# Altium integrated library TI Amplifiers and Linear Special Function Amplifier.IntLib: 708 symbols (part 42 of 47)
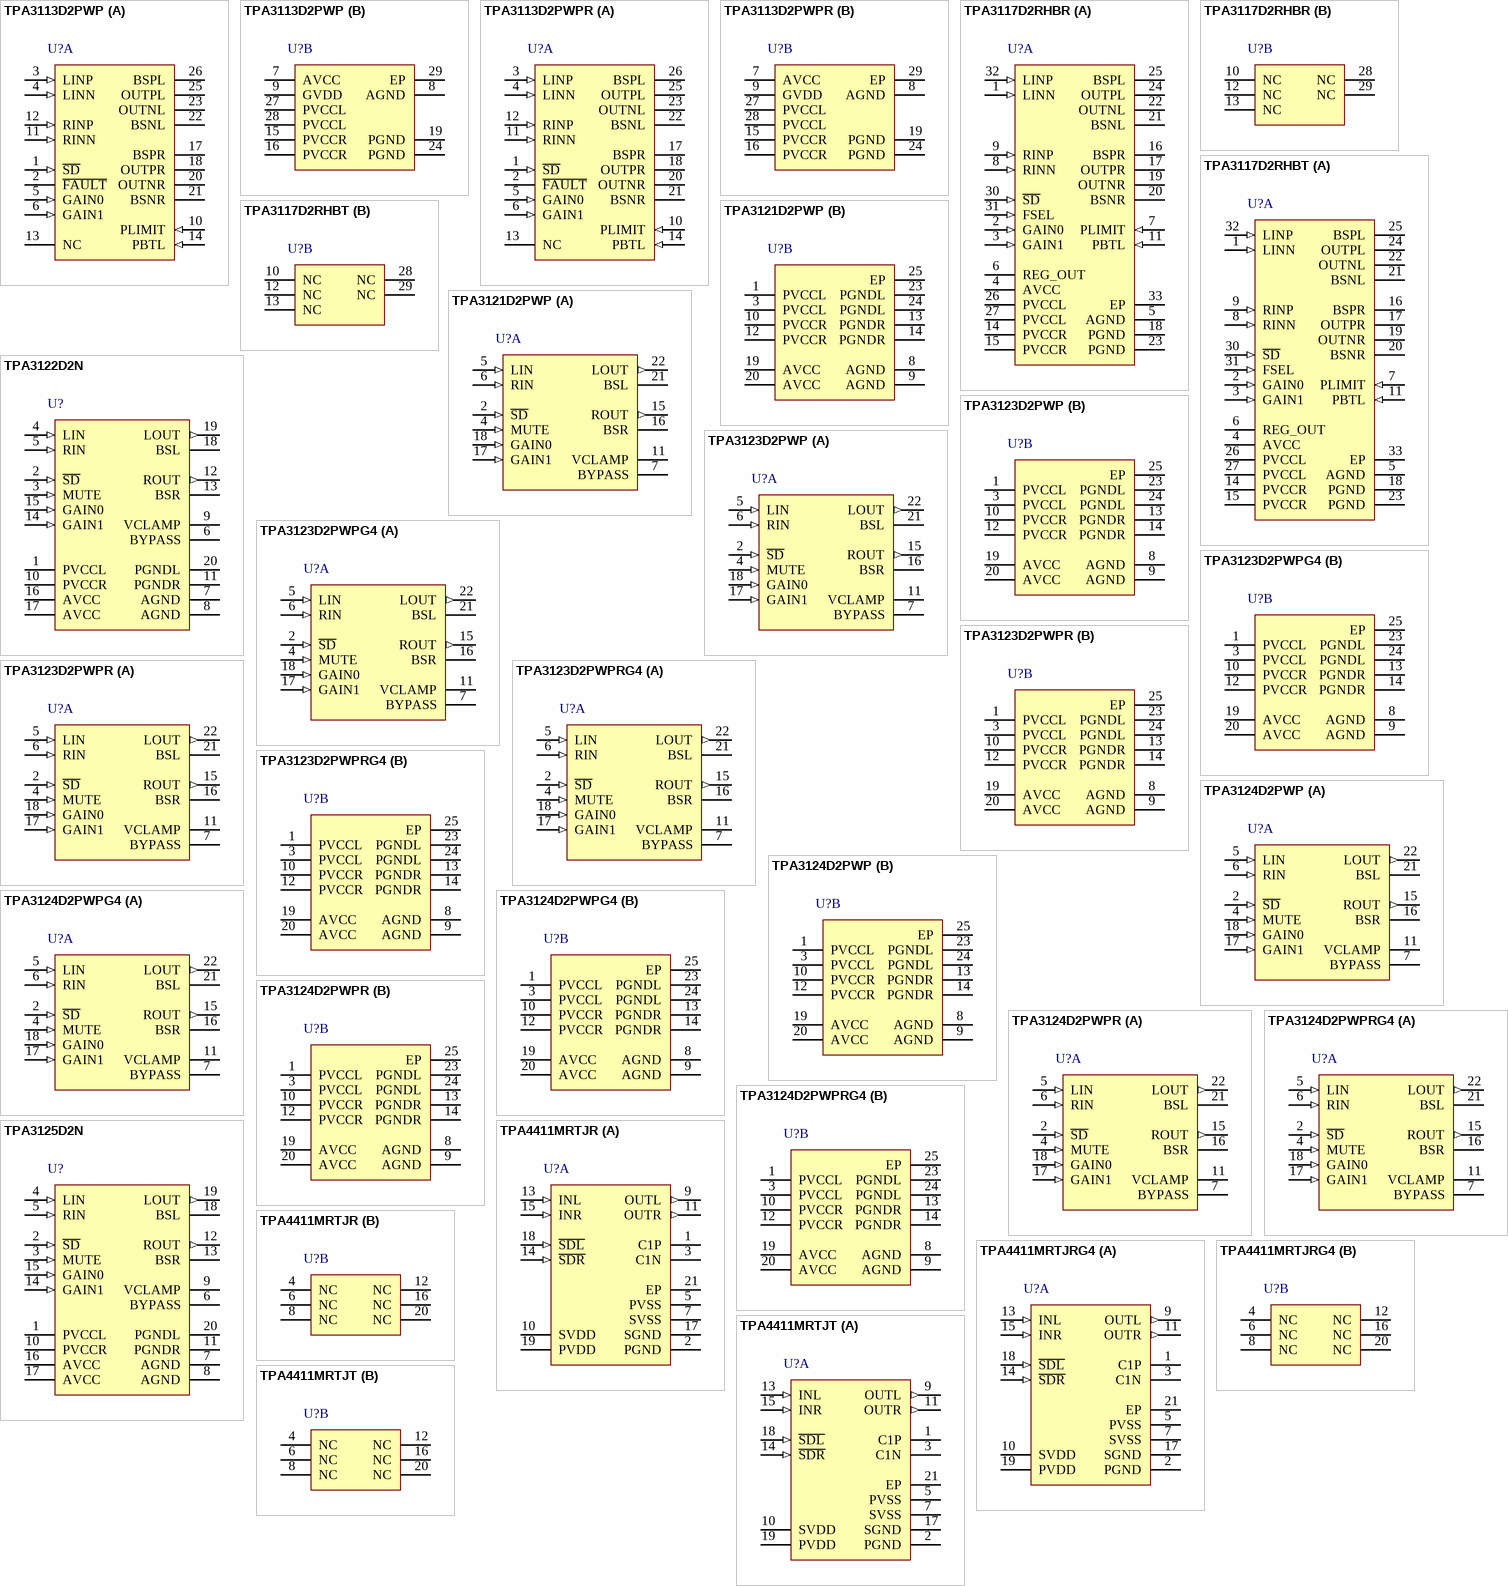
[diagram p80: symbols TPA3113D2PWP to TPA4411MRTJT]

## TPA3124D2PWPG4
designator U?
15 W Stereo Class-D Audio Power Amplifier with SE Outputs and Fast Mute Time, -40 to 85 degC, 24-pin SOP (PWP24), Green (RoHS & no Sb/Br); Manufacturer: Texas Instruments; PartNumber: TPA3124D2PWPG4; Analog Supply Max [V]: 26; Analog Supply Min [V]: 10; Input Type: Analog; Max. Number of Speaker Outputs: 2; SubFamily: Mid/High-Power Amplifier; DatasheetVersion: SLOS578; PackageVersion: 4073225-5/I, 05/2011; PackageReference: PWP24-4820X1950TP; PackageDescription: 24-Pin Plastic Small Outline, Body 4.4 x 7.8 mm, Pitch 0.65 mm; Supplier 1: Digi-Key; Supplier Part Number 1: TPA3124D2PWPG4-ND; Supplier 2: Mouser; Supplier Part Number 2: 595-TPA3124D2PWPG4; Eco-Plan: Green (RoHS & no Sb/Br); Power Stage Supply Min(V): 10; Mounting Technology: Surface Mount; Code_JEDEC: MO-153; ComponentLink1Description: Manufacturer URL; ComponentLink1URL: http://www.ti.com/; ComponentLink2Description: Datasheet; ComponentLink2URL: http://www.ti.com/general/docs/lit/getliterature.tsp?genericPartNumber=TPA3124D2&fileType=pdf; ComponentLink3Description: Package Specification; ComponentLink3URL: http://www.ti.com/litv/pdf/mpds372
footprint TI-PWP24-4820X1950TP_N (SOP, 24-Leads, Body 7.8x4.4mm, Pitch 0.65mm, Thermal Pad 4.87x2.4mm, IPC Medium Density)
footprint TI-PWP24-4820X1950TP_L (SOP, 24-Leads, Body 7.8x4.4mm, Pitch 0.65mm, Thermal Pad 4.87x2.4mm, IPC High Density)
footprint TI-PWP24-4820X1950TP_M (SOP, 24-Leads, Body 7.8x4.4mm, Pitch 0.65mm, Thermal Pad 4.87x2.4mm, IPC Low Density)
part A pins: 2 ~{SD} (in) "Shutdown signal for IC (low = disabled, high = operational). TTL logic levels with compliance to AVCC", 4 MUTE (in) "Mute signal for quick disable/enable of outputs (high = outputs switch at 50% duty cycle, low = outputs enabled). TTL logic levels with compliance to AVCC", 5 LIN (in) "Audio input for left channel", 6 RIN (in) "Audio input for right channel", 7 BYPASS "Reference for preamplifier inputs. Nominally equal to AVCC/8. Also controls start-up time via external capacitor sizing.", 11 VCLAMP "Internally generated voltage supply for bootstrap capacitors", 15 ROUT (out) "Class-D 1/2-H-bridge negative output for right channel", 16 BSR "Bootstrap I/O for right channel", 17 GAIN1 (in) "Gain select most-significant bit. TTL logic levels with compliance to AVCC", 18 GAIN0 (in) "Gain select least-significant bit. TTL logic levels with compliance to AVCC", 21 BSL "Bootstrap I/O for left channel", 22 LOUT (out) "Class-D 1/2-H-bridge positive output for left channel"
part B pins: 1 PVCCL (power) "Power supply for left-channel H-bridge, not internally connected to PVCCR or AVCC", 3 PVCCL (power) "Power supply for left-channel H-bridge, not internally connected to PVCCR or AVCC", 8 AGND (power) "Analog ground for analog cells in core", 9 AGND (power) "Analog ground for digital/analog cells in core", 10 PVCCR (power) "Power supply for right-channel H-bridge, not connected to PVCCL or AVCC", 12 PVCCR (power) "Power supply for right-channel H-bridge, not connected to PVCCL or AVCC", 13 PGNDR (power) "Power ground for right-channel H-bridge.", 14 PGNDR (power) "Power ground for right-channel H-bridge.", 19 AVCC (power) "High-voltage analog power supply. Not internally connected to PVCCR or PVCCL", 20 AVCC (power) "High-voltage analog power supply. Not internally connected to PVCCR or PVCCL", 23 PGNDL (power) "Power ground for left-channel H-bridge", 24 PGNDL (power) "Power ground for left-channel H-bridge", 25 EP (power) "Connect to ground. Thermal pad should be soldered down on all applications to secure the device properly to the printed wiring board."

## TPA3124D2PWPR
designator U?
15 W Stereo Class-D Audio Power Amplifier with SE Outputs and Fast Mute Time, -40 to 85 degC, 24-pin SOP (PWP24), Green (RoHS & no Sb/Br); Manufacturer: Texas Instruments; PartNumber: TPA3124D2PWPR; Analog Supply Max [V]: 26; Analog Supply Min [V]: 10; Input Type: Analog; Max. Number of Speaker Outputs: 2; SubFamily: Mid/High-Power Amplifier; DatasheetVersion: SLOS578; PackageVersion: 4073225-5/I, 05/2011; PackageReference: PWP24-4820X1950TP; PackageDescription: 24-Pin Plastic Small Outline, Body 4.4 x 7.8 mm, Pitch 0.65 mm; Supplier 1: Digi-Key; Supplier Part Number 1: 296-23478-2-ND; Supplier 2: Digi-Key; Supplier Part Number 2: 296-23478-1-ND; Supplier 3: Digi-Key; Supplier Part Number 3: 296-23478-6-ND; Supplier 4: Newark; Supplier Part Number 4: 13N4124; Supplier 5: Mouser; Supplier Part Number 5: 595-TPA3124D2PWPR; Eco-Plan: Green (RoHS & no Sb/Br); Power Stage Supply Min(V): 10; Mounting Technology: Surface Mount; Code_JEDEC: MO-153; ComponentLink1Description: Manufacturer URL; ComponentLink1URL: http://www.ti.com/; ComponentLink2Description: Datasheet; ComponentLink2URL: http://www.ti.com/general/docs/lit/getliterature.tsp?genericPartNumber=TPA3124D2&fileType=pdf; ComponentLink3Description: Package Specification; ComponentLink3URL: http://www.ti.com/litv/pdf/mpds372
footprint TI-PWP24-4820X1950TP_N (SOP, 24-Leads, Body 7.8x4.4mm, Pitch 0.65mm, Thermal Pad 4.87x2.4mm, IPC Medium Density)
footprint TI-PWP24-4820X1950TP_L (SOP, 24-Leads, Body 7.8x4.4mm, Pitch 0.65mm, Thermal Pad 4.87x2.4mm, IPC High Density)
footprint TI-PWP24-4820X1950TP_M (SOP, 24-Leads, Body 7.8x4.4mm, Pitch 0.65mm, Thermal Pad 4.87x2.4mm, IPC Low Density)
part A pins: 2 ~{SD} (in) "Shutdown signal for IC (low = disabled, high = operational). TTL logic levels with compliance to AVCC", 4 MUTE (in) "Mute signal for quick disable/enable of outputs (high = outputs switch at 50% duty cycle, low = outputs enabled). TTL logic levels with compliance to AVCC", 5 LIN (in) "Audio input for left channel", 6 RIN (in) "Audio input for right channel", 7 BYPASS "Reference for preamplifier inputs. Nominally equal to AVCC/8. Also controls start-up time via external capacitor sizing.", 11 VCLAMP "Internally generated voltage supply for bootstrap capacitors", 15 ROUT (out) "Class-D 1/2-H-bridge negative output for right channel", 16 BSR "Bootstrap I/O for right channel", 17 GAIN1 (in) "Gain select most-significant bit. TTL logic levels with compliance to AVCC", 18 GAIN0 (in) "Gain select least-significant bit. TTL logic levels with compliance to AVCC", 21 BSL "Bootstrap I/O for left channel", 22 LOUT (out) "Class-D 1/2-H-bridge positive output for left channel"
part B pins: 1 PVCCL (power) "Power supply for left-channel H-bridge, not internally connected to PVCCR or AVCC", 3 PVCCL (power) "Power supply for left-channel H-bridge, not internally connected to PVCCR or AVCC", 8 AGND (power) "Analog ground for analog cells in core", 9 AGND (power) "Analog ground for digital/analog cells in core", 10 PVCCR (power) "Power supply for right-channel H-bridge, not connected to PVCCL or AVCC", 12 PVCCR (power) "Power supply for right-channel H-bridge, not connected to PVCCL or AVCC", 13 PGNDR (power) "Power ground for right-channel H-bridge.", 14 PGNDR (power) "Power ground for right-channel H-bridge.", 19 AVCC (power) "High-voltage analog power supply. Not internally connected to PVCCR or PVCCL", 20 AVCC (power) "High-voltage analog power supply. Not internally connected to PVCCR or PVCCL", 23 PGNDL (power) "Power ground for left-channel H-bridge", 24 PGNDL (power) "Power ground for left-channel H-bridge", 25 EP (power) "Connect to ground. Thermal pad should be soldered down on all applications to secure the device properly to the printed wiring board."

## TPA3124D2PWPRG4
designator U?
15 W Stereo Class-D Audio Power Amplifier with SE Outputs and Fast Mute Time, -40 to 85 degC, 24-pin SOP (PWP24), Green (RoHS & no Sb/Br); Manufacturer: Texas Instruments; PartNumber: TPA3124D2PWPRG4; Analog Supply Max [V]: 26; Analog Supply Min [V]: 10; Input Type: Analog; Max. Number of Speaker Outputs: 2; SubFamily: Mid/High-Power Amplifier; DatasheetVersion: SLOS578; PackageVersion: 4073225-5/I, 05/2011; PackageReference: PWP24-4820X1950TP; PackageDescription: 24-Pin Plastic Small Outline, Body 4.4 x 7.8 mm, Pitch 0.65 mm; Supplier 1: Digi-Key; Supplier Part Number 1: TPA3124D2PWPRG4-ND; Supplier 2: Mouser; Supplier Part Number 2: 595-TPA3124D2PWPRG4; Eco-Plan: Green (RoHS & no Sb/Br); Power Stage Supply Min(V): 10; Mounting Technology: Surface Mount; Code_JEDEC: MO-153; ComponentLink1Description: Manufacturer URL; ComponentLink1URL: http://www.ti.com/; ComponentLink2Description: Datasheet; ComponentLink2URL: http://www.ti.com/general/docs/lit/getliterature.tsp?genericPartNumber=TPA3124D2&fileType=pdf; ComponentLink3Description: Package Specification; ComponentLink3URL: http://www.ti.com/litv/pdf/mpds372
footprint TI-PWP24-4820X1950TP_N (SOP, 24-Leads, Body 7.8x4.4mm, Pitch 0.65mm, Thermal Pad 4.87x2.4mm, IPC Medium Density)
footprint TI-PWP24-4820X1950TP_L (SOP, 24-Leads, Body 7.8x4.4mm, Pitch 0.65mm, Thermal Pad 4.87x2.4mm, IPC High Density)
footprint TI-PWP24-4820X1950TP_M (SOP, 24-Leads, Body 7.8x4.4mm, Pitch 0.65mm, Thermal Pad 4.87x2.4mm, IPC Low Density)
part A pins: 2 ~{SD} (in) "Shutdown signal for IC (low = disabled, high = operational). TTL logic levels with compliance to AVCC", 4 MUTE (in) "Mute signal for quick disable/enable of outputs (high = outputs switch at 50% duty cycle, low = outputs enabled). TTL logic levels with compliance to AVCC", 5 LIN (in) "Audio input for left channel", 6 RIN (in) "Audio input for right channel", 7 BYPASS "Reference for preamplifier inputs. Nominally equal to AVCC/8. Also controls start-up time via external capacitor sizing.", 11 VCLAMP "Internally generated voltage supply for bootstrap capacitors", 15 ROUT (out) "Class-D 1/2-H-bridge negative output for right channel", 16 BSR "Bootstrap I/O for right channel", 17 GAIN1 (in) "Gain select most-significant bit. TTL logic levels with compliance to AVCC", 18 GAIN0 (in) "Gain select least-significant bit. TTL logic levels with compliance to AVCC", 21 BSL "Bootstrap I/O for left channel", 22 LOUT (out) "Class-D 1/2-H-bridge positive output for left channel"
part B pins: 1 PVCCL (power) "Power supply for left-channel H-bridge, not internally connected to PVCCR or AVCC", 3 PVCCL (power) "Power supply for left-channel H-bridge, not internally connected to PVCCR or AVCC", 8 AGND (power) "Analog ground for analog cells in core", 9 AGND (power) "Analog ground for digital/analog cells in core", 10 PVCCR (power) "Power supply for right-channel H-bridge, not connected to PVCCL or AVCC", 12 PVCCR (power) "Power supply for right-channel H-bridge, not connected to PVCCL or AVCC", 13 PGNDR (power) "Power ground for right-channel H-bridge.", 14 PGNDR (power) "Power ground for right-channel H-bridge.", 19 AVCC (power) "High-voltage analog power supply. Not internally connected to PVCCR or PVCCL", 20 AVCC (power) "High-voltage analog power supply. Not internally connected to PVCCR or PVCCL", 23 PGNDL (power) "Power ground for left-channel H-bridge", 24 PGNDL (power) "Power ground for left-channel H-bridge", 25 EP (power) "Connect to ground. Thermal pad should be soldered down on all applications to secure the device properly to the printed wiring board."

## TPA3125D2N
designator U?
10 W Stereo Class-D Audio Power Amplifier with SE Outputs, -40 to 85 degC, 20-pin DIP (N20), Pb-Free (RoHS); Manufacturer: Texas Instruments; PartNumber: TPA3125D2N; Analog Supply Max [V]: 26; Analog Supply Min [V]: 10; Input Type: Analog; SubFamily: Mid/High-Power Amplifier; DatasheetVersion: SLOS611; PackageVersion: 4040049/E, 12/2002; PackageReference: N20; PackageDescription: 20-Pin Plastic In-Line, Body 25.40 x 6.35 mm, Pitch 2.54 mm; Supplier 1: Digi-Key; Supplier Part Number 1: 296-24090-5-ND; Supplier 2: Farnell; Supplier Part Number 2: 1755373; Supplier 3: Newark; Supplier Part Number 3: 45P8245; Supplier 4: Mouser; Supplier Part Number 4: 595-TPA3125D2N; Eco-Plan: Pb-Free (RoHS); Power Stage Supply Min(V): 10; Mounting Technology: Through Hole; Code_JEDEC: MS-001; ComponentLink1Description: Manufacturer URL; ComponentLink1URL: http://www.ti.com/; ComponentLink2Description: Datasheet; ComponentLink2URL: http://www.ti.com/general/docs/lit/getliterature.tsp?genericPartNumber=TPA3125D2&fileType=pdf; ComponentLink3Description: Package Specification; ComponentLink3URL: http://www.ti.com/lit/ml/mpdi002c/mpdi002c.pdf
footprint TI-N20 (DIP, 20-Leads, Body 25.4x6.35 mm, Pitch 2.54 mm)
pins: 1 PVCCL (power) "Power supply for left channel H-bridge.", 2 ~{SD} (in) "Shutdown signal for IC (low = outputs disabled, high = operational). TTL logic levels with compliance to AVCC.", 3 MUTE (in) "Mute signal for quick disable/enable of outputs (high = outputs switch at 50% duty cycle; low = outputs enabled). TTL logic levels with compliance to AVCC.", 4 LIN (in) "Audio input for left channel.", 5 RIN (in) "Audio input for right channel.", 6 BYPASS "Reference for pre-amplifier inputs. Nominally equal to AVCC/8. Also controls start-up time via external capacitor sizing.", 7 AGND (power) "Analog ground for digital/analog cells in core.", 8 AGND (power) "Analog ground for digital/analog cells in core.", 9 VCLAMP "Internally generated voltage supply for bootstrap capacitors.", 10 PVCCR (power) "Power supply for right channel H-bridge.", 11 PGNDR (power) "Power ground for right channel H-bridge.", 12 ROUT (out) "Class-D H-bridge negative output for right channel.", 13 BSR "Bootstrap input for right channel.", 14 GAIN1 (in) "Gain select most significant bit. TTL logic levels with compliance to AVCC.", 15 GAIN0 (in) "Gain select least significant bit. TTL logic levels with compliance to AVCC.", 16 AVCC (power) "High-voltage analog power supply. Not internally connected to PVCCR or PVCCL", 17 AVCC (power) "High-voltage analog power supply. Not internally connected to PVCCR or PVCCL", 18 BSL "Bootstrap input for left channel.", 19 LOUT (out) "Class-D H-bridge positive output for left channel.", 20 PGNDL (power) "Power ground for left channel H-bridge."

## TPA4411MRTJR
designator U?
80-mW DirectPath(TM) Stereo Headphone Amplifier, -40 to 85 degC, 20-pin QFN (RTJ20), Green (RoHS & no Sb/Br); Manufacturer: Texas Instruments; PartNumber: TPA4411MRTJR; Ground-Centered Outputs: Yes; Half Power THD + N @ 1 kHz (%)(kHz): 0.054; ISD(uA): 1; Load(Min)(ohms): 16; Output Power(W): 0.05; PSRR(dB): -80; Special Features: Fixed Gain; Supply Max(Max)(Volt): 4.5; Supply Min(Min)(Volt): 1.8; DatasheetVersion: SLOS430E; PackageVersion: 4205505/F, 07/2011; PackageReference: RTJ20-2150X2150TP; PackageDescription: 20-Pin Plastic Quad Flatpack No-Lead, Body 4 x 4 mm, Pitch 0.5 mm; Supplier 1: Digi-Key; Supplier Part Number 1: 296-26885-2-ND; Supplier 2: Digi-Key; Supplier Part Number 2: 296-26885-1-ND; Supplier 3: Digi-Key; Supplier Part Number 3: 296-26885-6-ND; Supplier 4: Mouser; Supplier Part Number 4: 595-TPA4411MRTJR; Eco-Plan: Green (RoHS & no Sb/Br); Headphone Channels: Stereo; SubFamily: Headphone Amplifier; Mounting Technology: Surface Mount; ComponentLink1Description: Manufacturer URL; ComponentLink1URL: http://www.ti.com/; ComponentLink2Description: Datasheet; ComponentLink2URL: http://www.ti.com/general/docs/lit/getliterature.tsp?genericPartNumber=TPA4411&fileType=pdf; ComponentLink3Description: Package Specification; ComponentLink3URL: http://www.ti.com/litv/pdf/mpqf156e
footprint TI-RTJ20-2150X2150TP_V (QFN, 20-Leads, Body 4x4mm, Pitch 0.5mm, Thermal Pad 2.15x2.15mm)
part A pins: 1 C1P "Charge pump flying capacitor positive terminal", 2 PGND (power) "Power ground, connect to ground.", 3 C1N "Charge pump flying capacitor negative terminal", 5 PVSS (power) "Output from charge pump", 7 SVSS (power) "Amplifier negative supply, connect to PVSS via star connection.", 9 OUTL (out) "Left audio channel output signal", 10 SVDD (power) "Amplifier positive supply, connect to PVDD via star connection.", 11 OUTR (out) "Right audio channel output signal", 13 INL (in) "Left audio channel input signal", 14 ~{SDR} (in) "Right channel shutdown, active low logic.", 15 INR (in) "Right audio channel input signal", 17 SGND (power) "Signal ground, connect to ground.", 18 ~{SDL} (in) "Left channel shutdown, active low logic.", 19 PVDD (power) "Supply voltage, connect to positive supply.", 21 EP "Exposed pad must be soldered to a floating plane. Do NOT connect to power or ground."
part B pins: 4 NC "No connection", 6 NC "No connection", 8 NC "No connection", 12 NC "No connection", 16 NC "No connection", 20 NC "No connection"

## TPA4411MRTJRG4
designator U?
80-mW DirectPath(TM) Stereo Headphone Amplifier, -40 to 85 degC, 20-pin QFN (RTJ20), Green (RoHS & no Sb/Br); Manufacturer: Texas Instruments; PartNumber: TPA4411MRTJRG4; Ground-Centered Outputs: Yes; Half Power THD + N @ 1 kHz (%)(kHz): 0.054; ISD(uA): 1; Load(Min)(ohms): 16; Output Power(W): 0.05; PSRR(dB): -80; Special Features: Fixed Gain; Supply Max(Max)(Volt): 4.5; Supply Min(Min)(Volt): 1.8; DatasheetVersion: SLOS430E; PackageVersion: 4205505/F, 07/2011; PackageReference: RTJ20-2150X2150TP; PackageDescription: 20-Pin Plastic Quad Flatpack No-Lead, Body 4 x 4 mm, Pitch 0.5 mm; Supplier 1: Digi-Key; Supplier Part Number 1: TPA4411MRTJRG4-ND; Supplier 2: Mouser; Supplier Part Number 2: 595-TPA4411MRTJRG4; Eco-Plan: Green (RoHS & no Sb/Br); Headphone Channels: Stereo; SubFamily: Headphone Amplifier; Mounting Technology: Surface Mount; ComponentLink1Description: Manufacturer URL; ComponentLink1URL: http://www.ti.com/; ComponentLink2Description: Datasheet; ComponentLink2URL: http://www.ti.com/general/docs/lit/getliterature.tsp?genericPartNumber=TPA4411&fileType=pdf; ComponentLink3Description: Package Specification; ComponentLink3URL: http://www.ti.com/litv/pdf/mpqf156e
footprint TI-RTJ20-2150X2150TP_V (QFN, 20-Leads, Body 4x4mm, Pitch 0.5mm, Thermal Pad 2.15x2.15mm)
part A pins: 1 C1P "Charge pump flying capacitor positive terminal", 2 PGND (power) "Power ground, connect to ground.", 3 C1N "Charge pump flying capacitor negative terminal", 5 PVSS (power) "Output from charge pump", 7 SVSS (power) "Amplifier negative supply, connect to PVSS via star connection.", 9 OUTL (out) "Left audio channel output signal", 10 SVDD (power) "Amplifier positive supply, connect to PVDD via star connection.", 11 OUTR (out) "Right audio channel output signal", 13 INL (in) "Left audio channel input signal", 14 ~{SDR} (in) "Right channel shutdown, active low logic.", 15 INR (in) "Right audio channel input signal", 17 SGND (power) "Signal ground, connect to ground.", 18 ~{SDL} (in) "Left channel shutdown, active low logic.", 19 PVDD (power) "Supply voltage, connect to positive supply.", 21 EP "Exposed pad must be soldered to a floating plane. Do NOT connect to power or ground."
part B pins: 4 NC "No connection", 6 NC "No connection", 8 NC "No connection", 12 NC "No connection", 16 NC "No connection", 20 NC "No connection"

## TPA4411MRTJT
designator U?
80-mW DirectPath(TM) Stereo Headphone Amplifier, -40 to 85 degC, 20-pin QFN (RTJ20), Green (RoHS & no Sb/Br); Manufacturer: Texas Instruments; PartNumber: TPA4411MRTJT; Ground-Centered Outputs: Yes; Half Power THD + N @ 1 kHz (%)(kHz): 0.054; ISD(uA): 1; Load(Min)(ohms): 16; Output Power(W): 0.05; PSRR(dB): -80; Special Features: Fixed Gain; Supply Max(Max)(Volt): 4.5; Supply Min(Min)(Volt): 1.8; DatasheetVersion: SLOS430E; PackageVersion: 4205505/F, 07/2011; PackageReference: RTJ20-2150X2150TP; PackageDescription: 20-Pin Plastic Quad Flatpack No-Lead, Body 4 x 4 mm, Pitch 0.5 mm; Supplier 1: Digi-Key; Supplier Part Number 1: 296-18278-2-ND; Supplier 2: Digi-Key; Supplier Part Number 2: 296-18278-1-ND; Supplier 3: Digi-Key; Supplier Part Number 3: 296-18278-6-ND; Supplier 4: Newark; Supplier Part Number 4: 43K9722; Supplier 5: Mouser; Supplier Part Number 5: 595-TPA4411MRTJT; Eco-Plan: Green (RoHS & no Sb/Br); Headphone Channels: Stereo; SubFamily: Headphone Amplifier; Mounting Technology: Surface Mount; ComponentLink1Description: Manufacturer URL; ComponentLink1URL: http://www.ti.com/; ComponentLink2Description: Datasheet; ComponentLink2URL: http://www.ti.com/general/docs/lit/getliterature.tsp?genericPartNumber=TPA4411&fileType=pdf; ComponentLink3Description: Package Specification; ComponentLink3URL: http://www.ti.com/litv/pdf/mpqf156e
footprint TI-RTJ20-2150X2150TP_V (QFN, 20-Leads, Body 4x4mm, Pitch 0.5mm, Thermal Pad 2.15x2.15mm)
part A pins: 1 C1P "Charge pump flying capacitor positive terminal", 2 PGND (power) "Power ground, connect to ground.", 3 C1N "Charge pump flying capacitor negative terminal", 5 PVSS (power) "Output from charge pump", 7 SVSS (power) "Amplifier negative supply, connect to PVSS via star connection.", 9 OUTL (out) "Left audio channel output signal", 10 SVDD (power) "Amplifier positive supply, connect to PVDD via star connection.", 11 OUTR (out) "Right audio channel output signal", 13 INL (in) "Left audio channel input signal", 14 ~{SDR} (in) "Right channel shutdown, active low logic.", 15 INR (in) "Right audio channel input signal", 17 SGND (power) "Signal ground, connect to ground.", 18 ~{SDL} (in) "Left channel shutdown, active low logic.", 19 PVDD (power) "Supply voltage, connect to positive supply.", 21 EP "Exposed pad must be soldered to a floating plane. Do NOT connect to power or ground."
part B pins: 4 NC "No connection", 6 NC "No connection", 8 NC "No connection", 12 NC "No connection", 16 NC "No connection", 20 NC "No connection"

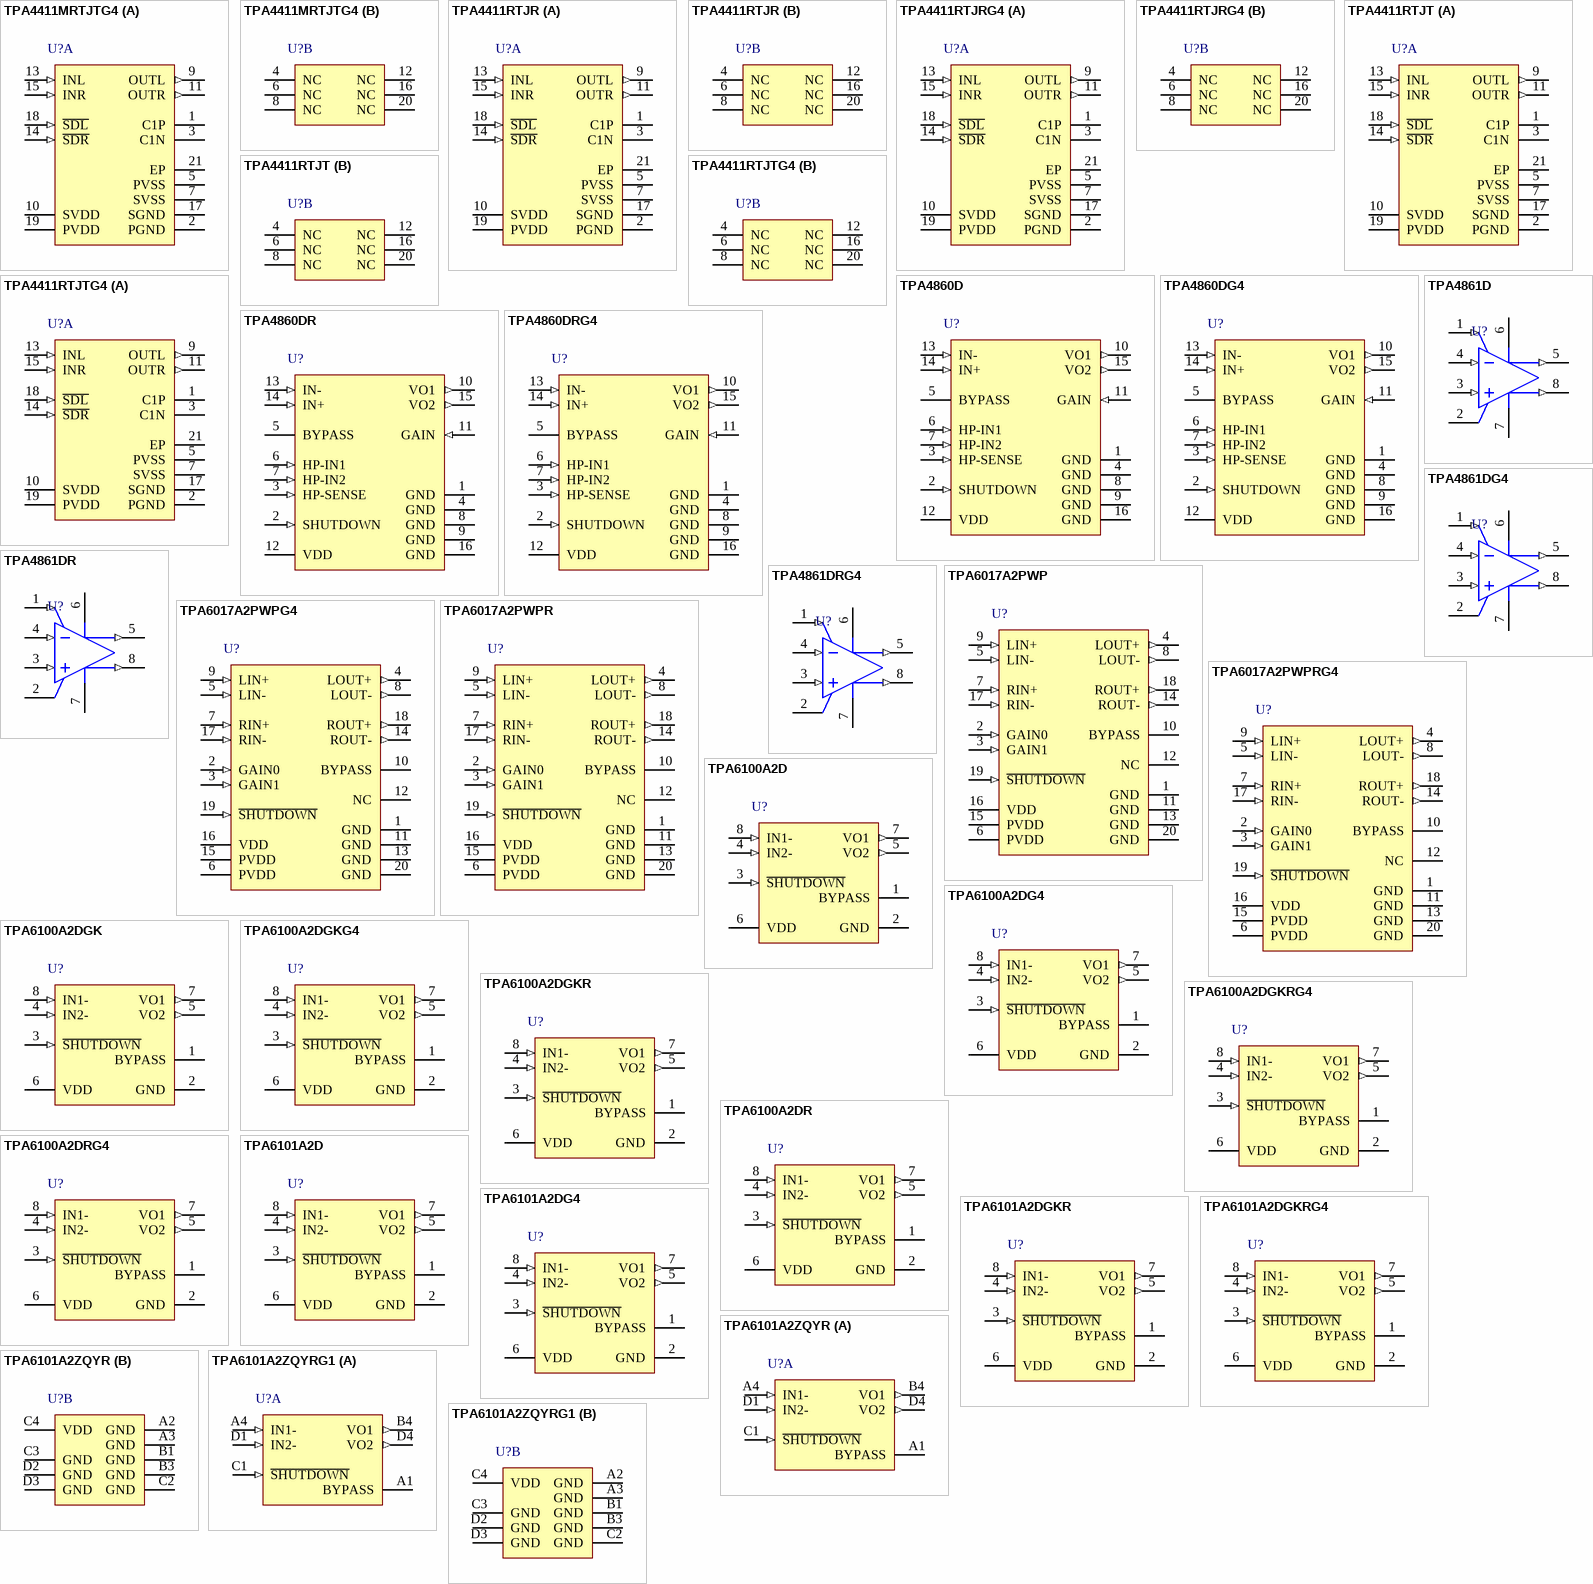
[diagram p36: symbols TPA4411MRTJTG4 to TPA6101A2ZQYRG1]

## TPA4411MRTJTG4
designator U?
80-mW DirectPath(TM) Stereo Headphone Amplifier, -40 to 85 degC, 20-pin QFN (RTJ20), Green (RoHS & no Sb/Br); Manufacturer: Texas Instruments; PartNumber: TPA4411MRTJTG4; Ground-Centered Outputs: Yes; Half Power THD + N @ 1 kHz (%)(kHz): 0.054; ISD(uA): 1; Load(Min)(ohms): 16; Output Power(W): 0.05; PSRR(dB): -80; Special Features: Fixed Gain; Supply Max(Max)(Volt): 4.5; Supply Min(Min)(Volt): 1.8; DatasheetVersion: SLOS430E; PackageVersion: 4205505/F, 07/2011; PackageReference: RTJ20-2150X2150TP; PackageDescription: 20-Pin Plastic Quad Flatpack No-Lead, Body 4 x 4 mm, Pitch 0.5 mm; Supplier 1: Digi-Key; Supplier Part Number 1: TPA4411MRTJTG4-ND; Supplier 2: Mouser; Supplier Part Number 2: 595-TPA4411MRTJTG4; Eco-Plan: Green (RoHS & no Sb/Br); Headphone Channels: Stereo; SubFamily: Headphone Amplifier; Mounting Technology: Surface Mount; ComponentLink1Description: Manufacturer URL; ComponentLink1URL: http://www.ti.com/; ComponentLink2Description: Datasheet; ComponentLink2URL: http://www.ti.com/general/docs/lit/getliterature.tsp?genericPartNumber=TPA4411&fileType=pdf; ComponentLink3Description: Package Specification; ComponentLink3URL: http://www.ti.com/litv/pdf/mpqf156e
footprint TI-RTJ20-2150X2150TP_V (QFN, 20-Leads, Body 4x4mm, Pitch 0.5mm, Thermal Pad 2.15x2.15mm)
part A pins: 1 C1P "Charge pump flying capacitor positive terminal", 2 PGND (power) "Power ground, connect to ground.", 3 C1N "Charge pump flying capacitor negative terminal", 5 PVSS (power) "Output from charge pump", 7 SVSS (power) "Amplifier negative supply, connect to PVSS via star connection.", 9 OUTL (out) "Left audio channel output signal", 10 SVDD (power) "Amplifier positive supply, connect to PVDD via star connection.", 11 OUTR (out) "Right audio channel output signal", 13 INL (in) "Left audio channel input signal", 14 ~{SDR} (in) "Right channel shutdown, active low logic.", 15 INR (in) "Right audio channel input signal", 17 SGND (power) "Signal ground, connect to ground.", 18 ~{SDL} (in) "Left channel shutdown, active low logic.", 19 PVDD (power) "Supply voltage, connect to positive supply.", 21 EP "Exposed pad must be soldered to a floating plane. Do NOT connect to power or ground."
part B pins: 4 NC "No connection", 6 NC "No connection", 8 NC "No connection", 12 NC "No connection", 16 NC "No connection", 20 NC "No connection"

## TPA4411RTJR
designator U?
80-mW DirectPath(TM) Stereo Headphone Amplifier, -40 to 85 degC, 20-pin QFN (RTJ20), Green (RoHS & no Sb/Br); Manufacturer: Texas Instruments; PartNumber: TPA4411RTJR; Ground-Centered Outputs: Yes; Half Power THD + N @ 1 kHz (%)(kHz): 0.054; ISD(uA): 1; Load(Min)(ohms): 16; Output Power(W): 0.05; PSRR(dB): -80; Special Features: Fixed Gain; Supply Max(Max)(Volt): 4.5; Supply Min(Min)(Volt): 1.8; DatasheetVersion: SLOS430E; PackageVersion: 4205505/F, 07/2011; PackageReference: RTJ20-2700X2700TP; PackageDescription: 20-pin Plastic Flat Pack, Body 4 x 4 mm, Pitch 0.5 mm; Supplier 1: Digi-Key; Supplier Part Number 1: TPA4411RTJR-ND; Supplier 2: Newark; Supplier Part Number 2: 44J2482; Supplier 3: Mouser; Supplier Part Number 3: 595-TPA4411RTJR; Eco-Plan: Green (RoHS & no Sb/Br); Headphone Channels: Stereo; SubFamily: Headphone Amplifier; Mounting Technology: Surface Mount; ComponentLink1Description: Manufacturer URL; ComponentLink1URL: http://www.ti.com/; ComponentLink2Description: Datasheet; ComponentLink2URL: http://www.ti.com/general/docs/lit/getliterature.tsp?genericPartNumber=TPA4411&fileType=pdf; ComponentLink3Description: Package Specification; ComponentLink3URL: http://www.ti.com/litv/pdf/mpqf156e
footprint TI-RTJ20-2700X2700TP_V (QFN, 20-Leads, Body 4x4mm, Pitch 0.5mm, Thermal Pad 2.7x2.7mm)
part A pins: 1 C1P "Charge pump flying capacitor positive terminal", 2 PGND (power) "Power ground, connect to ground.", 3 C1N "Charge pump flying capacitor negative terminal", 5 PVSS (power) "Output from charge pump", 7 SVSS (power) "Amplifier negative supply, connect to PVSS via star connection.", 9 OUTL (out) "Left audio channel output signal", 10 SVDD (power) "Amplifier positive supply, connect to PVDD via star connection.", 11 OUTR (out) "Right audio channel output signal", 13 INL (in) "Left audio channel input signal", 14 ~{SDR} (in) "Right channel shutdown, active low logic.", 15 INR (in) "Right audio channel input signal", 17 SGND (power) "Signal ground, connect to ground.", 18 ~{SDL} (in) "Left channel shutdown, active low logic.", 19 PVDD (power) "Supply voltage, connect to positive supply.", 21 EP "Exposed pad must be soldered to a floating plane. Do NOT connect to power or ground."
part B pins: 4 NC "No connection", 6 NC "No connection", 8 NC "No connection", 12 NC "No connection", 16 NC "No connection", 20 NC "No connection"

## TPA4411RTJRG4
designator U?
80-mW DirectPath(TM) Stereo Headphone Amplifier, -40 to 85 degC, 20-pin QFN (RTJ20), Green (RoHS & no Sb/Br); Manufacturer: Texas Instruments; PartNumber: TPA4411RTJRG4; Ground-Centered Outputs: Yes; Half Power THD + N @ 1 kHz (%)(kHz): 0.054; ISD(uA): 1; Load(Min)(ohms): 16; Output Power(W): 0.05; PSRR(dB): -80; Special Features: Fixed Gain; Supply Max(Max)(Volt): 4.5; Supply Min(Min)(Volt): 1.8; DatasheetVersion: SLOS430E; PackageVersion: 4205505/F, 07/2011; PackageReference: RTJ20-2700X2700TP; PackageDescription: 20-pin Plastic Flat Pack, Body 4 x 4 mm, Pitch 0.5 mm; Supplier 1: Digi-Key; Supplier Part Number 1: TPA4411RTJRG4-ND; Supplier 2: Mouser; Supplier Part Number 2: 595-TPA4411RTJRG4; Eco-Plan: Green (RoHS & no Sb/Br); Headphone Channels: Stereo; SubFamily: Headphone Amplifier; Mounting Technology: Surface Mount; ComponentLink1Description: Manufacturer URL; ComponentLink1URL: http://www.ti.com/; ComponentLink2Description: Datasheet; ComponentLink2URL: http://www.ti.com/general/docs/lit/getliterature.tsp?genericPartNumber=TPA4411&fileType=pdf; ComponentLink3Description: Package Specification; ComponentLink3URL: http://www.ti.com/litv/pdf/mpqf156e
footprint TI-RTJ20-2700X2700TP_V (QFN, 20-Leads, Body 4x4mm, Pitch 0.5mm, Thermal Pad 2.7x2.7mm)
part A pins: 1 C1P "Charge pump flying capacitor positive terminal", 2 PGND (power) "Power ground, connect to ground.", 3 C1N "Charge pump flying capacitor negative terminal", 5 PVSS (power) "Output from charge pump", 7 SVSS (power) "Amplifier negative supply, connect to PVSS via star connection.", 9 OUTL (out) "Left audio channel output signal", 10 SVDD (power) "Amplifier positive supply, connect to PVDD via star connection.", 11 OUTR (out) "Right audio channel output signal", 13 INL (in) "Left audio channel input signal", 14 ~{SDR} (in) "Right channel shutdown, active low logic.", 15 INR (in) "Right audio channel input signal", 17 SGND (power) "Signal ground, connect to ground.", 18 ~{SDL} (in) "Left channel shutdown, active low logic.", 19 PVDD (power) "Supply voltage, connect to positive supply.", 21 EP "Exposed pad must be soldered to a floating plane. Do NOT connect to power or ground."
part B pins: 4 NC "No connection", 6 NC "No connection", 8 NC "No connection", 12 NC "No connection", 16 NC "No connection", 20 NC "No connection"

## TPA4411RTJT
designator U?
80-mW DirectPath(TM) Stereo Headphone Amplifier, -40 to 85 degC, 20-pin QFN (RTJ20), Green (RoHS & no Sb/Br); Manufacturer: Texas Instruments; PartNumber: TPA4411RTJT; Ground-Centered Outputs: Yes; Half Power THD + N @ 1 kHz (%)(kHz): 0.054; ISD(uA): 1; Load(Min)(ohms): 16; Output Power(W): 0.05; PSRR(dB): -80; Special Features: Fixed Gain; Supply Max(Max)(Volt): 4.5; Supply Min(Min)(Volt): 1.8; DatasheetVersion: SLOS430E; PackageVersion: 4205505/F, 07/2011; PackageReference: RTJ20-2700X2700TP; PackageDescription: 20-pin Plastic Flat Pack, Body 4 x 4 mm, Pitch 0.5 mm; Supplier 1: Digi-Key; Supplier Part Number 1: 296-17312-2-ND; Supplier 2: Digi-Key; Supplier Part Number 2: 296-17312-1-ND; Supplier 3: Digi-Key; Supplier Part Number 3: 296-17312-6-ND; Supplier 4: Newark; Supplier Part Number 4: 44J2483; Supplier 5: Mouser; Supplier Part Number 5: 595-TPA4411RTJT; Eco-Plan: Green (RoHS & no Sb/Br); Headphone Channels: Stereo; SubFamily: Headphone Amplifier; Mounting Technology: Surface Mount; ComponentLink1Description: Manufacturer URL; ComponentLink1URL: http://www.ti.com/; ComponentLink2Description: Datasheet; ComponentLink2URL: http://www.ti.com/general/docs/lit/getliterature.tsp?genericPartNumber=TPA4411&fileType=pdf; ComponentLink3Description: Package Specification; ComponentLink3URL: http://www.ti.com/litv/pdf/mpqf156e
footprint TI-RTJ20-2700X2700TP_V (QFN, 20-Leads, Body 4x4mm, Pitch 0.5mm, Thermal Pad 2.7x2.7mm)
part A pins: 1 C1P "Charge pump flying capacitor positive terminal", 2 PGND (power) "Power ground, connect to ground.", 3 C1N "Charge pump flying capacitor negative terminal", 5 PVSS (power) "Output from charge pump", 7 SVSS (power) "Amplifier negative supply, connect to PVSS via star connection.", 9 OUTL (out) "Left audio channel output signal", 10 SVDD (power) "Amplifier positive supply, connect to PVDD via star connection.", 11 OUTR (out) "Right audio channel output signal", 13 INL (in) "Left audio channel input signal", 14 ~{SDR} (in) "Right channel shutdown, active low logic.", 15 INR (in) "Right audio channel input signal", 17 SGND (power) "Signal ground, connect to ground.", 18 ~{SDL} (in) "Left channel shutdown, active low logic.", 19 PVDD (power) "Supply voltage, connect to positive supply.", 21 EP "Exposed pad must be soldered to a floating plane. Do NOT connect to power or ground."
part B pins: 4 NC "No connection", 6 NC "No connection", 8 NC "No connection", 12 NC "No connection", 16 NC "No connection", 20 NC "No connection"

## TPA4411RTJTG4
designator U?
80-mW DirectPath(TM) Stereo Headphone Amplifier, -40 to 85 degC, 20-pin QFN (RTJ20), Green (RoHS & no Sb/Br); Manufacturer: Texas Instruments; PartNumber: TPA4411RTJTG4; Ground-Centered Outputs: Yes; Half Power THD + N @ 1 kHz (%)(kHz): 0.054; ISD(uA): 1; Load(Min)(ohms): 16; Output Power(W): 0.05; PSRR(dB): -80; Special Features: Fixed Gain; Supply Max(Max)(Volt): 4.5; Supply Min(Min)(Volt): 1.8; DatasheetVersion: SLOS430E; PackageVersion: 4205505/F, 07/2011; PackageReference: RTJ20-2700X2700TP; PackageDescription: 20-pin Plastic Flat Pack, Body 4 x 4 mm, Pitch 0.5 mm; Supplier 1: Digi-Key; Supplier Part Number 1: TPA4411RTJTG4-ND; Supplier 2: Mouser; Supplier Part Number 2: 595-TPA4411RTJTG4; Eco-Plan: Green (RoHS & no Sb/Br); Headphone Channels: Stereo; SubFamily: Headphone Amplifier; Mounting Technology: Surface Mount; ComponentLink1Description: Manufacturer URL; ComponentLink1URL: http://www.ti.com/; ComponentLink2Description: Datasheet; ComponentLink2URL: http://www.ti.com/general/docs/lit/getliterature.tsp?genericPartNumber=TPA4411&fileType=pdf; ComponentLink3Description: Package Specification; ComponentLink3URL: http://www.ti.com/litv/pdf/mpqf156e
footprint TI-RTJ20-2700X2700TP_V (QFN, 20-Leads, Body 4x4mm, Pitch 0.5mm, Thermal Pad 2.7x2.7mm)
part A pins: 1 C1P "Charge pump flying capacitor positive terminal", 2 PGND (power) "Power ground, connect to ground.", 3 C1N "Charge pump flying capacitor negative terminal", 5 PVSS (power) "Output from charge pump", 7 SVSS (power) "Amplifier negative supply, connect to PVSS via star connection.", 9 OUTL (out) "Left audio channel output signal", 10 SVDD (power) "Amplifier positive supply, connect to PVDD via star connection.", 11 OUTR (out) "Right audio channel output signal", 13 INL (in) "Left audio channel input signal", 14 ~{SDR} (in) "Right channel shutdown, active low logic.", 15 INR (in) "Right audio channel input signal", 17 SGND (power) "Signal ground, connect to ground.", 18 ~{SDL} (in) "Left channel shutdown, active low logic.", 19 PVDD (power) "Supply voltage, connect to positive supply.", 21 EP "Exposed pad must be soldered to a floating plane. Do NOT connect to power or ground."
part B pins: 4 NC "No connection", 6 NC "No connection", 8 NC "No connection", 12 NC "No connection", 16 NC "No connection", 20 NC "No connection"

## TPA4860D
designator U?
1-W Mono Audio Power Amplifier, -40 to 85 degC, 16-pin SOIC (D16), Green (RoHS & no Sb/Br); Manufacturer: Texas Instruments; PartNumber: TPA4860D; Output Power(W): 1; PSRR(dB): 70; Speaker Amp Type: Class-AB; SubFamily: Dynamic Speaker; Supply Max(Max)(Volt): 5.5; Supply Min(Min)(Volt): 2.7; DatasheetVersion: SLOS164B; PackageVersion: 4040047-6/M, 06/2011; PackageReference: D16; PackageDescription: 16-Pin Plastic Small Outline, Body 9.9 x 3.9 mm, Pitch 1.27 mm; Supplier 1: Digi-Key; Supplier Part Number 1: 296-7013-5-ND; Supplier 2: Newark; Supplier Part Number 2: 76C9811; Supplier 3: Mouser; Supplier Part Number 3: 595-TPA4860D; Eco-Plan: Green (RoHS & no Sb/Br); Speaker Channels: Mono; Mounting Technology: Surface Mount; Code_JEDEC: MS-012; ComponentLink1Description: Manufacturer URL; ComponentLink1URL: http://www.ti.com/; ComponentLink2Description: Datasheet; ComponentLink2URL: http://www.ti.com/general/docs/lit/getliterature.tsp?genericPartNumber=TPA4860&fileType=pdf; ComponentLink3Description: Package Specification; ComponentLink3URL: http://www.ti.com/lit/ml/mpds178g/mpds178g.pdf
footprint TI-D16_N (SOIC, 16-Leads, Body 10x4mm, Pitch 1.27mm, IPC Medium Density)
footprint TI-D16_L (SOIC, 16-Leads, Body 10x4mm, Pitch 1.27mm, IPC High Density)
footprint TI-D16_M (SOIC, 16-Leads, Body 10x4mm, Pitch 1.27mm, IPC Low Density)
pins: 1 GND (power), 2 SHUTDOWN (in), 3 HP-SENSE (in), 4 GND (power), 5 BYPASS, 6 HP-IN1 (in), 7 HP-IN2 (in), 8 GND (power), 9 GND (power), 10 VO1 (out), 11 GAIN (in), 12 VDD (power), 13 IN- (in), 14 IN+ (in), 15 VO2 (out), 16 GND (power)

## TPA4860DG4
designator U?
1-W Mono Audio Power Amplifier, -40 to 85 degC, 16-pin SOIC (D16), Green (RoHS & no Sb/Br); Manufacturer: Texas Instruments; PartNumber: TPA4860DG4; Output Power(W): 1; PSRR(dB): 70; Speaker Amp Type: Class-AB; SubFamily: Dynamic Speaker; Supply Max(Max)(Volt): 5.5; Supply Min(Min)(Volt): 2.7; DatasheetVersion: SLOS164B; PackageVersion: 4040047-6/M, 06/2011; PackageReference: D16; PackageDescription: 16-Pin Plastic Small Outline, Body 9.9 x 3.9 mm, Pitch 1.27 mm; Supplier 1: Digi-Key; Supplier Part Number 1: TPA4860DG4-ND; Supplier 2: Mouser; Supplier Part Number 2: 595-TPA4860DG4; Eco-Plan: Green (RoHS & no Sb/Br); Speaker Channels: Mono; Mounting Technology: Surface Mount; Code_JEDEC: MS-012; ComponentLink1Description: Manufacturer URL; ComponentLink1URL: http://www.ti.com/; ComponentLink2Description: Datasheet; ComponentLink2URL: http://www.ti.com/general/docs/lit/getliterature.tsp?genericPartNumber=TPA4860&fileType=pdf; ComponentLink3Description: Package Specification; ComponentLink3URL: http://www.ti.com/lit/ml/mpds178g/mpds178g.pdf
footprint TI-D16_N (SOIC, 16-Leads, Body 10x4mm, Pitch 1.27mm, IPC Medium Density)
footprint TI-D16_L (SOIC, 16-Leads, Body 10x4mm, Pitch 1.27mm, IPC High Density)
footprint TI-D16_M (SOIC, 16-Leads, Body 10x4mm, Pitch 1.27mm, IPC Low Density)
pins: 1 GND (power), 2 SHUTDOWN (in), 3 HP-SENSE (in), 4 GND (power), 5 BYPASS, 6 HP-IN1 (in), 7 HP-IN2 (in), 8 GND (power), 9 GND (power), 10 VO1 (out), 11 GAIN (in), 12 VDD (power), 13 IN- (in), 14 IN+ (in), 15 VO2 (out), 16 GND (power)

## TPA4860DR
designator U?
1-W Mono Audio Power Amplifier, -40 to 85 degC, 16-pin SOIC (D16), Green (RoHS & no Sb/Br); Manufacturer: Texas Instruments; PartNumber: TPA4860DR; Output Power(W): 1; PSRR(dB): 70; Speaker Amp Type: Class-AB; SubFamily: Dynamic Speaker; Supply Max(Max)(Volt): 5.5; Supply Min(Min)(Volt): 2.7; DatasheetVersion: SLOS164B; PackageVersion: 4040047-6/M, 06/2011; PackageReference: D16; PackageDescription: 16-Pin Plastic Small Outline, Body 9.9 x 3.9 mm, Pitch 1.27 mm; Supplier 1: Digi-Key; Supplier Part Number 1: TPA4860DR-ND; Supplier 2: Newark; Supplier Part Number 2: 76C9812; Supplier 3: Mouser; Supplier Part Number 3: 595-TPA4860DR; Eco-Plan: Green (RoHS & no Sb/Br); Speaker Channels: Mono; Mounting Technology: Surface Mount; Code_JEDEC: MS-012; ComponentLink1Description: Manufacturer URL; ComponentLink1URL: http://www.ti.com/; ComponentLink2Description: Datasheet; ComponentLink2URL: http://www.ti.com/general/docs/lit/getliterature.tsp?genericPartNumber=TPA4860&fileType=pdf; ComponentLink3Description: Package Specification; ComponentLink3URL: http://www.ti.com/lit/ml/mpds178g/mpds178g.pdf
footprint TI-D16_N (SOIC, 16-Leads, Body 10x4mm, Pitch 1.27mm, IPC Medium Density)
footprint TI-D16_L (SOIC, 16-Leads, Body 10x4mm, Pitch 1.27mm, IPC High Density)
footprint TI-D16_M (SOIC, 16-Leads, Body 10x4mm, Pitch 1.27mm, IPC Low Density)
pins: 1 GND (power), 2 SHUTDOWN (in), 3 HP-SENSE (in), 4 GND (power), 5 BYPASS, 6 HP-IN1 (in), 7 HP-IN2 (in), 8 GND (power), 9 GND (power), 10 VO1 (out), 11 GAIN (in), 12 VDD (power), 13 IN- (in), 14 IN+ (in), 15 VO2 (out), 16 GND (power)

## TPA4860DRG4
designator U?
1-W Mono Audio Power Amplifier, -40 to 85 degC, 16-pin SOIC (D16), Green (RoHS & no Sb/Br); Manufacturer: Texas Instruments; PartNumber: TPA4860DRG4; Output Power(W): 1; PSRR(dB): 70; Speaker Amp Type: Class-AB; SubFamily: Dynamic Speaker; Supply Max(Max)(Volt): 5.5; Supply Min(Min)(Volt): 2.7; DatasheetVersion: SLOS164B; PackageVersion: 4040047-6/M, 06/2011; PackageReference: D16; PackageDescription: 16-Pin Plastic Small Outline, Body 9.9 x 3.9 mm, Pitch 1.27 mm; Supplier 1: Digi-Key; Supplier Part Number 1: TPA4860DRG4-ND; Supplier 2: Mouser; Supplier Part Number 2: 595-TPA4860DRG4; Eco-Plan: Green (RoHS & no Sb/Br); Speaker Channels: Mono; Mounting Technology: Surface Mount; Code_JEDEC: MS-012; ComponentLink1Description: Manufacturer URL; ComponentLink1URL: http://www.ti.com/; ComponentLink2Description: Datasheet; ComponentLink2URL: http://www.ti.com/general/docs/lit/getliterature.tsp?genericPartNumber=TPA4860&fileType=pdf; ComponentLink3Description: Package Specification; ComponentLink3URL: http://www.ti.com/lit/ml/mpds178g/mpds178g.pdf
footprint TI-D16_N (SOIC, 16-Leads, Body 10x4mm, Pitch 1.27mm, IPC Medium Density)
footprint TI-D16_L (SOIC, 16-Leads, Body 10x4mm, Pitch 1.27mm, IPC High Density)
footprint TI-D16_M (SOIC, 16-Leads, Body 10x4mm, Pitch 1.27mm, IPC Low Density)
pins: 1 GND (power), 2 SHUTDOWN (in), 3 HP-SENSE (in), 4 GND (power), 5 BYPASS, 6 HP-IN1 (in), 7 HP-IN2 (in), 8 GND (power), 9 GND (power), 10 VO1 (out), 11 GAIN (in), 12 VDD (power), 13 IN- (in), 14 IN+ (in), 15 VO2 (out), 16 GND (power)

## TPA4861D
designator U?
1-W Mono Audio Power Amplifier, -40 to 85 degC, 8-pin SOIC (D8), Green (RoHS & no Sb/Br); Manufacturer: Texas Instruments; PartNumber: TPA4861D; Output Power(W): 1; PSRR(dB): 70; Speaker Amp Type: Class-AB; SubFamily: Dynamic Speaker; Supply Max(Max)(Volt): 5.5; Supply Min(Min)(Volt): 2.7; DatasheetVersion: SLOS163C; PackageVersion: 4040047-3/M, 06/2011; PackageReference: D8; PackageDescription: 8-Pin Plastic Small Outline, Body 4.9 x 3.9 mm, Pitch 1.27 mm; Supplier 1: Digi-Key; Supplier Part Number 1: 296-7014-5-ND; Supplier 2: Farnell; Supplier Part Number 2: 8456526; Supplier 3: Newark; Supplier Part Number 3: 35K1280; Supplier 4: Mouser; Supplier Part Number 4: 595-TPA4861D; Eco-Plan: Green (RoHS & no Sb/Br); Speaker Channels: Mono; Mounting Technology: Surface Mount; Code_JEDEC: MS-012; ComponentLink1Description: Manufacturer URL; ComponentLink1URL: http://www.ti.com/; ComponentLink2Description: Datasheet; ComponentLink2URL: http://www.ti.com/general/docs/lit/getliterature.tsp?genericPartNumber=TPA4861&fileType=pdf; ComponentLink3Description: Package Specification; ComponentLink3URL: http://www.ti.com/litv/pdf/msoi002j
footprint TI-D8_N (SOIC, 8-Leads, Body 5x4mm, Pitch 1.27mm, IPC Medium Density)
footprint TI-D8_L (SOIC, 8-Leads, Body 5x4mm, Pitch 1.27mm, IPC High Density)
footprint TI-D8_M (SOIC, 8-Leads, Body 5x4mm, Pitch 1.27mm, IPC Low Density)
pins: 1 SHUTDOWN (in) "SHUTDOWN places the entire device in shutdown mode when held high (IDD ~ 0.6 uA).", 2 BYPASS "BYPASS is the tap to the voltage divider for internal mid-supply bias. This terminal should be connected to a 0.1-uF - 1.0-uF capacitor when used as an audio power amplifier.", 3 IN+ (in) "IN+ is the noninverting input. IN+ is typically tied to the BYPASS terminal.", 4 IN- (in) "IN- is the inverting input. IN- is typically used as the audio input terminal.", 5 VO1 (out) "SHUTDOWN places the entire device in shutdown mode when held high (IDD ~ 0.6 uA).", 6 VDD (power) "VDD is the supply voltage terminal.", 7 GND (power) "GND is the ground connection.", 8 VO2 (out) "VO2 is the negative BTL output."

## TPA4861DG4
designator U?
1-W Mono Audio Power Amplifier, -40 to 85 degC, 8-pin SOIC (D8), Green (RoHS & no Sb/Br); Manufacturer: Texas Instruments; PartNumber: TPA4861DG4; Output Power(W): 1; PSRR(dB): 70; Speaker Amp Type: Class-AB; SubFamily: Dynamic Speaker; Supply Max(Max)(Volt): 5.5; Supply Min(Min)(Volt): 2.7; DatasheetVersion: SLOS163C; PackageVersion: 4040047-3/M, 06/2011; PackageReference: D8; PackageDescription: 8-Pin Plastic Small Outline, Body 4.9 x 3.9 mm, Pitch 1.27 mm; Supplier 1: Digi-Key; Supplier Part Number 1: TPA4861DG4-ND; Supplier 2: Newark; Supplier Part Number 2: 28M7808; Supplier 3: Mouser; Supplier Part Number 3: 595-TPA4861DG4; Eco-Plan: Green (RoHS & no Sb/Br); Speaker Channels: Mono; Mounting Technology: Surface Mount; Code_JEDEC: MS-012; ComponentLink1Description: Manufacturer URL; ComponentLink1URL: http://www.ti.com/; ComponentLink2Description: Datasheet; ComponentLink2URL: http://www.ti.com/general/docs/lit/getliterature.tsp?genericPartNumber=TPA4861&fileType=pdf; ComponentLink3Description: Package Specification; ComponentLink3URL: http://www.ti.com/litv/pdf/msoi002j
footprint TI-D8_N (SOIC, 8-Leads, Body 5x4mm, Pitch 1.27mm, IPC Medium Density)
footprint TI-D8_L (SOIC, 8-Leads, Body 5x4mm, Pitch 1.27mm, IPC High Density)
footprint TI-D8_M (SOIC, 8-Leads, Body 5x4mm, Pitch 1.27mm, IPC Low Density)
pins: 1 SHUTDOWN (in) "SHUTDOWN places the entire device in shutdown mode when held high (IDD ~ 0.6 uA).", 2 BYPASS "BYPASS is the tap to the voltage divider for internal mid-supply bias. This terminal should be connected to a 0.1-uF - 1.0-uF capacitor when used as an audio power amplifier.", 3 IN+ (in) "IN+ is the noninverting input. IN+ is typically tied to the BYPASS terminal.", 4 IN- (in) "IN- is the inverting input. IN- is typically used as the audio input terminal.", 5 VO1 (out) "SHUTDOWN places the entire device in shutdown mode when held high (IDD ~ 0.6 uA).", 6 VDD (power) "VDD is the supply voltage terminal.", 7 GND (power) "GND is the ground connection.", 8 VO2 (out) "VO2 is the negative BTL output."

## TPA4861DR
designator U?
1-W Mono Audio Power Amplifier, -40 to 85 degC, 8-pin SOIC (D8), Green (RoHS & no Sb/Br); Manufacturer: Texas Instruments; PartNumber: TPA4861DR; Output Power(W): 1; PSRR(dB): 70; Speaker Amp Type: Class-AB; SubFamily: Dynamic Speaker; Supply Max(Max)(Volt): 5.5; Supply Min(Min)(Volt): 2.7; DatasheetVersion: SLOS163C; PackageVersion: 4040047-3/M, 06/2011; PackageReference: D8; PackageDescription: 8-Pin Plastic Small Outline, Body 4.9 x 3.9 mm, Pitch 1.27 mm; Supplier 1: Digi-Key; Supplier Part Number 1: 296-7014-2-ND; Supplier 2: Digi-Key; Supplier Part Number 2: 296-7014-1-ND; Supplier 3: Digi-Key; Supplier Part Number 3: 296-7014-6-ND; Supplier 4: Farnell; Supplier Part Number 4: 1535752; Supplier 5: Newark; Supplier Part Number 5: 76C9815; Supplier 6: Mouser; Supplier Part Number 6: 595-TPA4861DR; Eco-Plan: Green (RoHS & no Sb/Br); Speaker Channels: Mono; Mounting Technology: Surface Mount; Code_JEDEC: MS-012; ComponentLink1Description: Manufacturer URL; ComponentLink1URL: http://www.ti.com/; ComponentLink2Description: Datasheet; ComponentLink2URL: http://www.ti.com/general/docs/lit/getliterature.tsp?genericPartNumber=TPA4861&fileType=pdf; ComponentLink3Description: Package Specification; ComponentLink3URL: http://www.ti.com/litv/pdf/msoi002j
footprint TI-D8_N (SOIC, 8-Leads, Body 5x4mm, Pitch 1.27mm, IPC Medium Density)
footprint TI-D8_L (SOIC, 8-Leads, Body 5x4mm, Pitch 1.27mm, IPC High Density)
footprint TI-D8_M (SOIC, 8-Leads, Body 5x4mm, Pitch 1.27mm, IPC Low Density)
pins: 1 SHUTDOWN (in) "SHUTDOWN places the entire device in shutdown mode when held high (IDD ~ 0.6 uA).", 2 BYPASS "BYPASS is the tap to the voltage divider for internal mid-supply bias. This terminal should be connected to a 0.1-uF - 1.0-uF capacitor when used as an audio power amplifier.", 3 IN+ (in) "IN+ is the noninverting input. IN+ is typically tied to the BYPASS terminal.", 4 IN- (in) "IN- is the inverting input. IN- is typically used as the audio input terminal.", 5 VO1 (out) "SHUTDOWN places the entire device in shutdown mode when held high (IDD ~ 0.6 uA).", 6 VDD (power) "VDD is the supply voltage terminal.", 7 GND (power) "GND is the ground connection.", 8 VO2 (out) "VO2 is the negative BTL output."

## TPA4861DRG4
designator U?
1-W Mono Audio Power Amplifier, -40 to 85 degC, 8-pin SOIC (D8), Green (RoHS & no Sb/Br); Manufacturer: Texas Instruments; PartNumber: TPA4861DRG4; Output Power(W): 1; PSRR(dB): 70; Speaker Amp Type: Class-AB; SubFamily: Dynamic Speaker; Supply Max(Max)(Volt): 5.5; Supply Min(Min)(Volt): 2.7; DatasheetVersion: SLOS163C; PackageVersion: 4040047-3/M, 06/2011; PackageReference: D8; PackageDescription: 8-Pin Plastic Small Outline, Body 4.9 x 3.9 mm, Pitch 1.27 mm; Supplier 1: Digi-Key; Supplier Part Number 1: TPA4861DRG4-ND; Supplier 2: Newark; Supplier Part Number 2: 58K6876; Supplier 3: Mouser; Supplier Part Number 3: 595-TPA4861DRG4; Eco-Plan: Green (RoHS & no Sb/Br); Speaker Channels: Mono; Mounting Technology: Surface Mount; Code_JEDEC: MS-012; ComponentLink1Description: Manufacturer URL; ComponentLink1URL: http://www.ti.com/; ComponentLink2Description: Datasheet; ComponentLink2URL: http://www.ti.com/general/docs/lit/getliterature.tsp?genericPartNumber=TPA4861&fileType=pdf; ComponentLink3Description: Package Specification; ComponentLink3URL: http://www.ti.com/litv/pdf/msoi002j
footprint TI-D8_N (SOIC, 8-Leads, Body 5x4mm, Pitch 1.27mm, IPC Medium Density)
footprint TI-D8_L (SOIC, 8-Leads, Body 5x4mm, Pitch 1.27mm, IPC High Density)
footprint TI-D8_M (SOIC, 8-Leads, Body 5x4mm, Pitch 1.27mm, IPC Low Density)
pins: 1 SHUTDOWN (in) "SHUTDOWN places the entire device in shutdown mode when held high (IDD ~ 0.6 uA).", 2 BYPASS "BYPASS is the tap to the voltage divider for internal mid-supply bias. This terminal should be connected to a 0.1-uF - 1.0-uF capacitor when used as an audio power amplifier.", 3 IN+ (in) "IN+ is the noninverting input. IN+ is typically tied to the BYPASS terminal.", 4 IN- (in) "IN- is the inverting input. IN- is typically used as the audio input terminal.", 5 VO1 (out) "SHUTDOWN places the entire device in shutdown mode when held high (IDD ~ 0.6 uA).", 6 VDD (power) "VDD is the supply voltage terminal.", 7 GND (power) "GND is the ground connection.", 8 VO2 (out) "VO2 is the negative BTL output."